# Altium footprint library SolarpanelZPlus.PcbLib: 1 footprints
Each footprint in its own frame and in the unit in brackets; x right, y up, seen from the top. Pads: shape width x height; smd on the part's side, far side on the other; paste and mask are expansions set on the pad; w line width, h text height; cw(c..) or ccw(c..) is an arc to the next point about the centre after c.
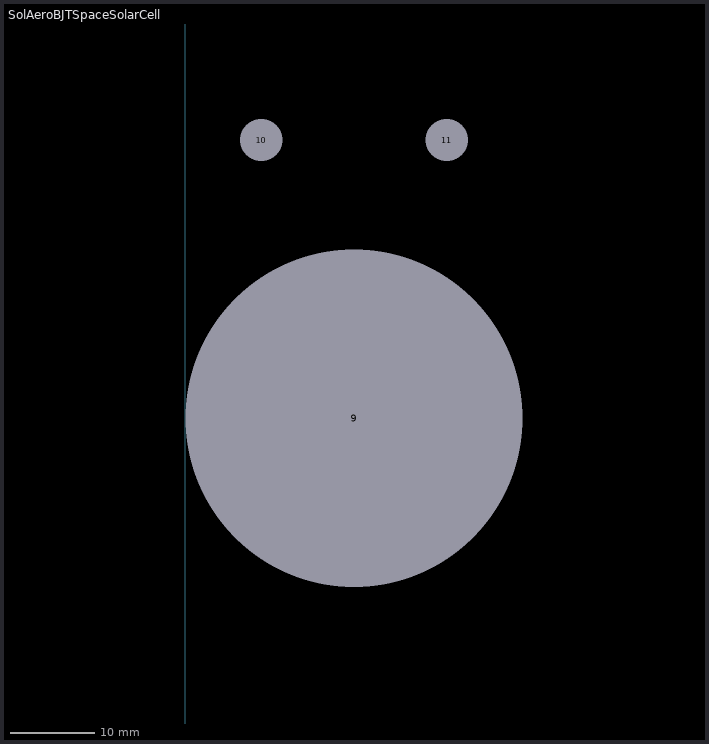
[diagram p0: the footprint, top view; thin cyan lines are the x and y axes]

## SolAeroBJTSpaceSolarCell [mm] "Solar Cell"
pads (3):
  round 1.524 hole 40 square: 9(20,-60)
  round 1.524 hole 5 square: 10(9,-27) 11(31,-27)